# Altium schematic symbol library AZ23C4V7-E3-08.Schlib: 1 symbol
Pins are listed as number, name and electrical type; pins without a type are passive.

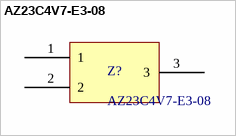
[diagram p0: symbol AZ23C4V7-E3-08]

## AZ23C4V7-E3-08
designator Z?
300mW zener diode
footprint AZ23C4V7-E3-08 (300mW zener diode)
pins: 1, 2, 3